# Altium schematic symbol library 4066.Schlib: 1 symbol
Pins are listed as number, name and electrical type; pins without a type are passive.

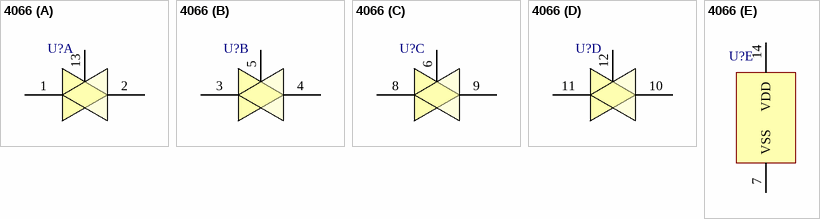
[diagram p0: symbol 4066]

## 4066
designator U?  (value not drawn)
Quad Bilateral Switch
part A pins: 1 IN/OUT, 2 OUT/IN, 13 CONTA
part B pins: 3 IN/OUT, 4 OUT/IN, 5 CONTB
part C pins: 6 CONTC, 8 IN/OUT, 9 OUT/IN
part D pins: 10 OUT/IN, 11 IN/OUT, 12 CONTD
part E pins: 7 VSS, 14 VDD